# Altium schematic symbol library Movandi_14.SchLib: 2 symbols
Pins are listed as number, name and electrical type; pins without a type are passive.

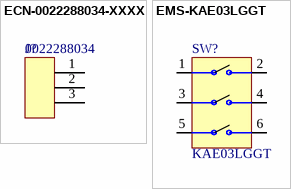
[diagram p0: symbols ECN-0022288034-XXXX to EMS-KAE03LGGT]

## ECN-0022288034-XXXX
designator J?, comment value 0022288034  (hidden comment: CONN HEADER R/A 3POS 2.54MM)
Internal Part Number: ECN-0022288034-XXXX; Manufacturer: Molex; Vendor Part Number: WM24214-ND; 1st Auxiliary Field: 3; 2nd Auxiliary Field: 2.5A; 3rd Auxiliary Field: ROHS3 Compliant; 4th Auxiliary Field: 2.5mm; Temp Co: -40°C ~ 105°C; Vendor Name: Digi-Key; Part Type: CONN HEADER R/A 3POS 2.54MM; Manufacturer Part Number: 0022288034
footprint HDRRA03W61P254_1X3_620X254X250P (Footprint not found)
pins: 1, 2, 3

## EMS-KAE03LGGT
designator SW?, comment value KAE03LGGT  (hidden comment: SWITCH SLIDE DIP SPST 25MA 24V)
Manufacturer: E-Switch; Internal Part Number: EMS-KAE03LGGT; Vendor Part Number: EG5025-ND; 2nd Auxiliary Field: 24VDC; 3rd Auxiliary Field: ROHS3 Compliant; Component Height (mm): 4.45mm; Vendor Name: Digi-Key; Temp Co: -20°C ~ 85°C; 1st Auxiliary Field: 25mA; 4th Auxiliary Field: SPST; Part Type: SWITCH SLIDE DIP SPST 25MA 24V; Manufacturer Part Number: KAE03LGGT
footprint SW_KAE03LGGT (Footprint not found)
pins: 1, 2, 3, 4, 5, 6